# Altium schematic symbol library SMD 4000 Series Components.SchLib: 126 symbols (part 2 of 3)
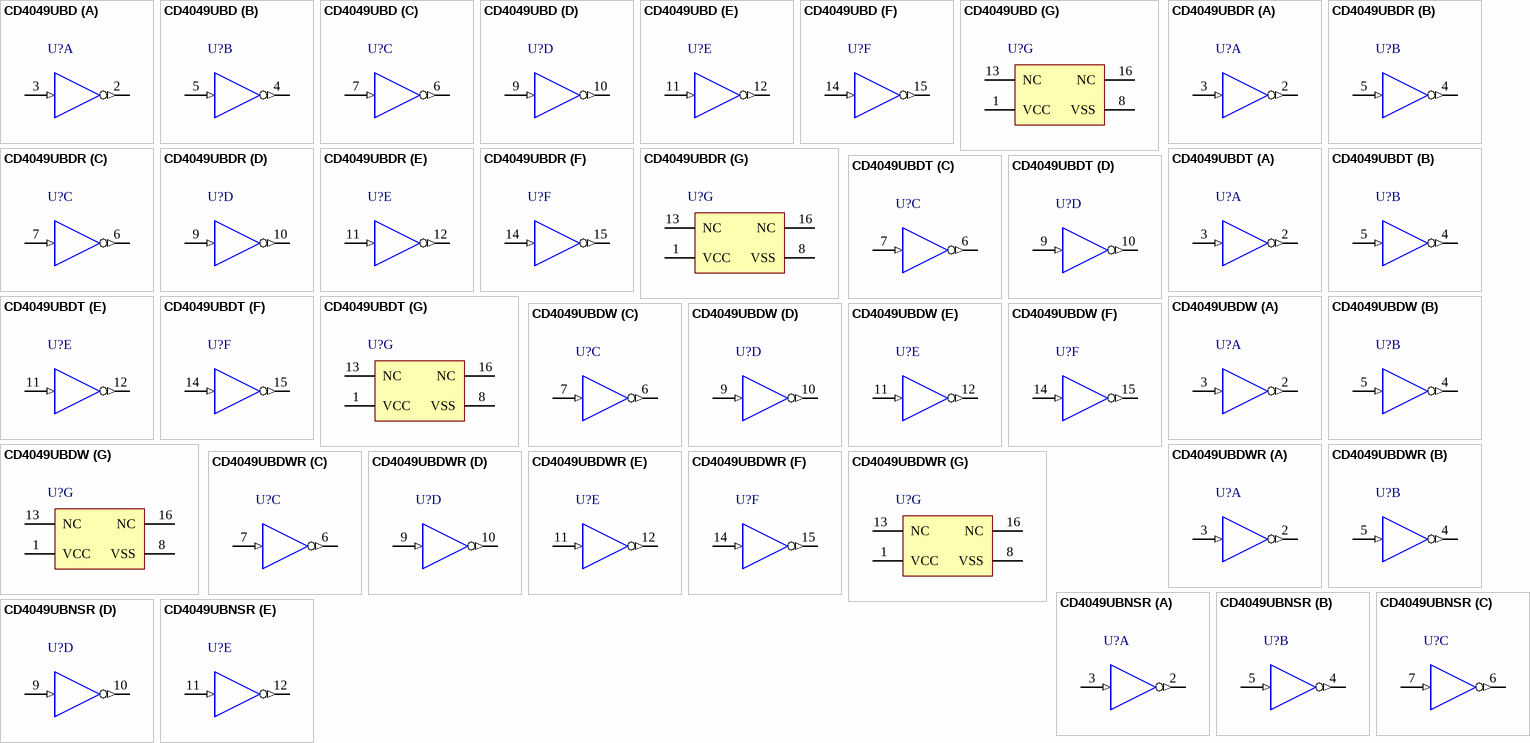
[diagram p11: symbols CD4049UBD to CD4049UBNSR]

## CD4049UBDR
designator U?
CMOS Hex Inverting Buffer/Converter, D0016A, LARGE T&R; Generic Part Number: CD4049UB; Manufacturer: Texas Instruments; PartNumber: CD4049UBDR; VCC(Max)(V): 18; VCC(Min)(V): 3; ICC @ Nom Voltage(Max)(mA): 0.03; Bits(#): 6; F @ Nom Voltage(Max)(Mhz): 12; Rating: Military; Technology Family: CD4000; Voltage(Nom)(V): 5; Schmitt Trigger: No; Output Drive (IOL/IOH)(Max)(mA): -1.2/5.2; tpd @ Nom Voltage(Max)(ns): 120; DatasheetVersion: SCHS046I; PackageReference: D0016A; Output Type: CMOS; Input Type: CMOS; Operating Temperature Range(C): -55 to 125; ComponentLink1Description: Manufacturer URL; ComponentLink1URL: http://www.ti.com/; ComponentLink2Description: Datasheet; ComponentLink2URL: http://www.ti.com/lit/ds/symlink/cd4049ub.pdf; ComponentLink3Description: Package Specification; ComponentLink3URL: http://www.ti.com/lit/ml/mpds178g/mpds178g.pdf
footprint SOIC-16 (SOIC, 16-Leads, Body 9.9x3.9mm, Pitch 1.27mm, IPC Medium Density)
part A pins: 2 G=~{A} (out), 3 A (in)
part B pins: 4 H=~{B} (out), 5 B (in)
part C pins: 6 I=~{C} (out), 7 C (in)
part D pins: 9 D (in), 10 J=~{D} (out)
part E pins: 11 E (in), 12 K=~{E} (out)
part F pins: 14 F (in), 15 L=~{F} (out)
part G pins: 1 VCC (power), 8 VSS (power), 13 NC, 16 NC

## CD4049UBDT
designator U?
CMOS Hex Inverting Buffer/Converter, D0016A, SMALL T&R; Generic Part Number: CD4049UB; Manufacturer: Texas Instruments; PartNumber: CD4049UBDT; VCC(Max)(V): 18; VCC(Min)(V): 3; ICC @ Nom Voltage(Max)(mA): 0.03; Bits(#): 6; F @ Nom Voltage(Max)(Mhz): 12; Rating: Military; Technology Family: CD4000; Voltage(Nom)(V): 5; Schmitt Trigger: No; Output Drive (IOL/IOH)(Max)(mA): -1.2/5.2; tpd @ Nom Voltage(Max)(ns): 120; DatasheetVersion: SCHS046I; PackageReference: D0016A; Output Type: CMOS; Input Type: CMOS; Operating Temperature Range(C): -55 to 125; ComponentLink1Description: Manufacturer URL; ComponentLink1URL: http://www.ti.com/; ComponentLink2Description: Datasheet; ComponentLink2URL: http://www.ti.com/lit/ds/symlink/cd4049ub.pdf; ComponentLink3Description: Package Specification; ComponentLink3URL: http://www.ti.com/lit/ml/mpds178g/mpds178g.pdf
footprint SOIC-16 (SOIC, 16-Leads, Body 9.9x3.9mm, Pitch 1.27mm, IPC Medium Density)
part A pins: 2 G=~{A} (out), 3 A (in)
part B pins: 4 H=~{B} (out), 5 B (in)
part C pins: 6 I=~{C} (out), 7 C (in)
part D pins: 9 D (in), 10 J=~{D} (out)
part E pins: 11 E (in), 12 K=~{E} (out)
part F pins: 14 F (in), 15 L=~{F} (out)
part G pins: 1 VCC (power), 8 VSS (power), 13 NC, 16 NC

## CD4049UBDW
designator U?
CMOS Hex Inverting Buffer/Converter, DW0016A, TUBE; Generic Part Number: CD4049UB; Manufacturer: Texas Instruments; PartNumber: CD4049UBDW; VCC(Max)(V): 18; VCC(Min)(V): 3; ICC @ Nom Voltage(Max)(mA): 0.03; Bits(#): 6; F @ Nom Voltage(Max)(Mhz): 12; Rating: Military; Technology Family: CD4000; Voltage(Nom)(V): 5; Schmitt Trigger: No; Output Drive (IOL/IOH)(Max)(mA): -1.2/5.2; tpd @ Nom Voltage(Max)(ns): 120; DatasheetVersion: SCHS046I; PackageReference: DW0016A; Output Type: CMOS; Input Type: CMOS; Operating Temperature Range(C): -55 to 125; ComponentLink1Description: Manufacturer URL; ComponentLink1URL: http://www.ti.com/; ComponentLink2Description: Datasheet; ComponentLink2URL: http://www.ti.com/lit/ds/symlink/cd4049ub.pdf; ComponentLink3Description: Package Specification; ComponentLink3URL: http://www.ti.com/lit/ml/msoi003g/msoi003g.pdf
footprint SOIC-16 (SOIC, 16-Leads, Body 9.9x3.9mm, Pitch 1.27mm, IPC Medium Density)
part A pins: 2 G=~{A} (out), 3 A (in)
part B pins: 4 H=~{B} (out), 5 B (in)
part C pins: 6 I=~{C} (out), 7 C (in)
part D pins: 9 D (in), 10 J=~{D} (out)
part E pins: 11 E (in), 12 K=~{E} (out)
part F pins: 14 F (in), 15 L=~{F} (out)
part G pins: 1 VCC (power), 8 VSS (power), 13 NC, 16 NC

## CD4049UBDWR
designator U?
CMOS Hex Inverting Buffer/Converter, DW0016A, LARGE T&R; Generic Part Number: CD4049UB; Manufacturer: Texas Instruments; PartNumber: CD4049UBDWR; VCC(Max)(V): 18; VCC(Min)(V): 3; ICC @ Nom Voltage(Max)(mA): 0.03; Bits(#): 6; F @ Nom Voltage(Max)(Mhz): 12; Rating: Military; Technology Family: CD4000; Voltage(Nom)(V): 5; Schmitt Trigger: No; Output Drive (IOL/IOH)(Max)(mA): -1.2/5.2; tpd @ Nom Voltage(Max)(ns): 120; DatasheetVersion: SCHS046I; PackageReference: DW0016A; Output Type: CMOS; Input Type: CMOS; Operating Temperature Range(C): -55 to 125; ComponentLink1Description: Manufacturer URL; ComponentLink1URL: http://www.ti.com/; ComponentLink2Description: Datasheet; ComponentLink2URL: http://www.ti.com/lit/ds/symlink/cd4049ub.pdf; ComponentLink3Description: Package Specification; ComponentLink3URL: http://www.ti.com/lit/ml/msoi003g/msoi003g.pdf
footprint SOIC-16 (SOIC, 16-Leads, Body 9.9x3.9mm, Pitch 1.27mm, IPC Medium Density)
part A pins: 2 G=~{A} (out), 3 A (in)
part B pins: 4 H=~{B} (out), 5 B (in)
part C pins: 6 I=~{C} (out), 7 C (in)
part D pins: 9 D (in), 10 J=~{D} (out)
part E pins: 11 E (in), 12 K=~{E} (out)
part F pins: 14 F (in), 15 L=~{F} (out)
part G pins: 1 VCC (power), 8 VSS (power), 13 NC, 16 NC

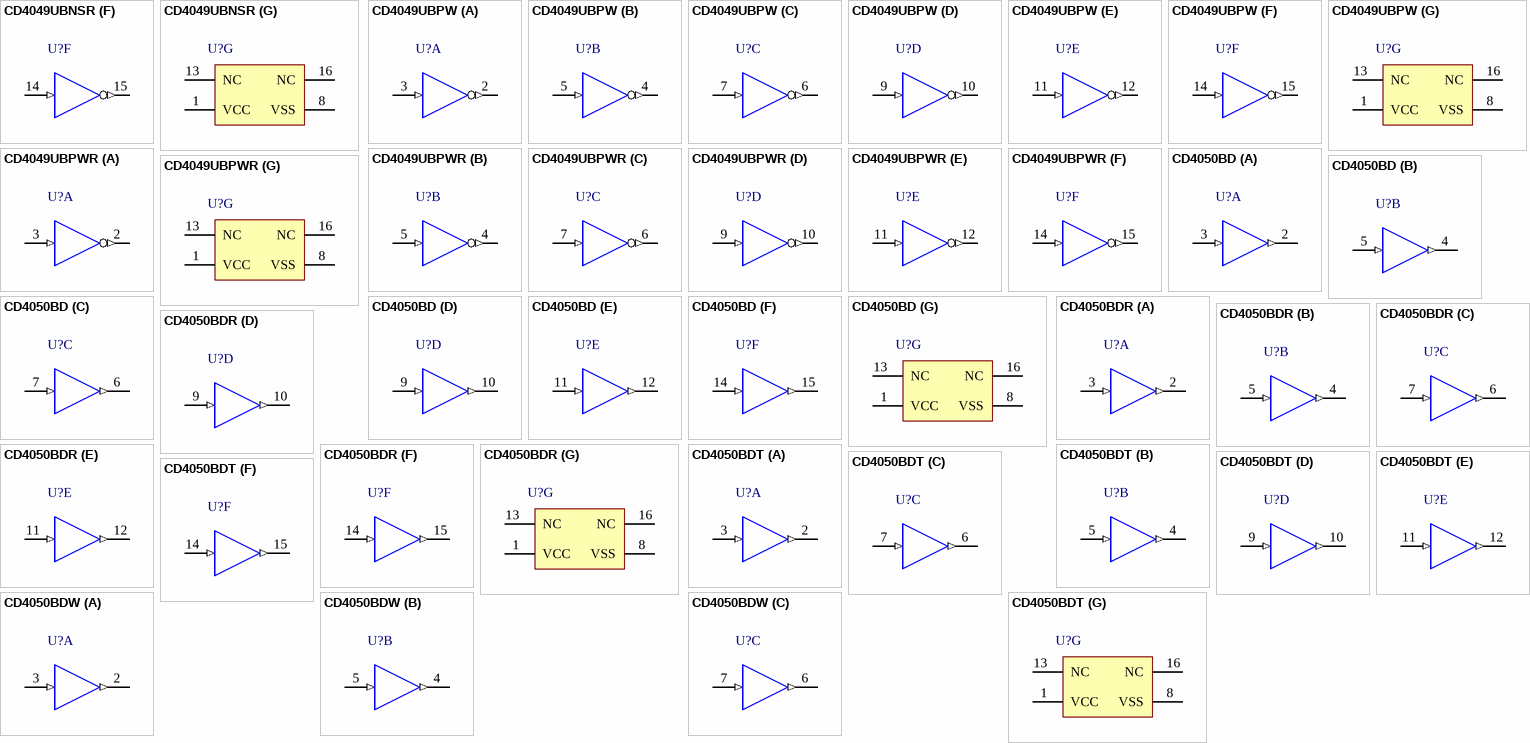
[diagram p5: symbols CD4049UBNSR to CD4050BDW]

## CD4049UBNSR
designator U?
CMOS Hex Inverting Buffer/Converter, NS0016A, LARGE T&R; Generic Part Number: CD4049UB; Manufacturer: Texas Instruments; PartNumber: CD4049UBNSR; VCC(Max)(V): 18; VCC(Min)(V): 3; ICC @ Nom Voltage(Max)(mA): 0.03; Bits(#): 6; F @ Nom Voltage(Max)(Mhz): 12; Rating: Military; Technology Family: CD4000; Voltage(Nom)(V): 5; Schmitt Trigger: No; Output Drive (IOL/IOH)(Max)(mA): -1.2/5.2; tpd @ Nom Voltage(Max)(ns): 120; DatasheetVersion: SCHS046I; PackageReference: NS0016A; Output Type: CMOS; Input Type: CMOS; Operating Temperature Range(C): -55 to 125; ComponentLink1Description: Manufacturer URL; ComponentLink1URL: http://www.ti.com/; ComponentLink2Description: Datasheet; ComponentLink2URL: http://www.ti.com/lit/ds/symlink/cd4049ub.pdf; ComponentLink3Description: Package Specification; ComponentLink3URL: http://www.ti.com/lit/ml/msop002a/msop002a.pdf
footprint SOIC-16 (SOIC, 16-Leads, Body 9.9x3.9mm, Pitch 1.27mm, IPC Medium Density)
part A pins: 2 G=~{A} (out), 3 A (in)
part B pins: 4 H=~{B} (out), 5 B (in)
part C pins: 6 I=~{C} (out), 7 C (in)
part D pins: 9 D (in), 10 J=~{D} (out)
part E pins: 11 E (in), 12 K=~{E} (out)
part F pins: 14 F (in), 15 L=~{F} (out)
part G pins: 1 VCC (power), 8 VSS (power), 13 NC, 16 NC

## CD4049UBPW
designator U?
CMOS Hex Inverting Buffer/Converter, PW0016A, TUBE; Generic Part Number: CD4049UB; Manufacturer: Texas Instruments; PartNumber: CD4049UBPW; VCC(Max)(V): 18; VCC(Min)(V): 3; ICC @ Nom Voltage(Max)(mA): 0.03; Bits(#): 6; F @ Nom Voltage(Max)(Mhz): 12; Rating: Military; Technology Family: CD4000; Voltage(Nom)(V): 5; Schmitt Trigger: No; Output Drive (IOL/IOH)(Max)(mA): -1.2/5.2; tpd @ Nom Voltage(Max)(ns): 120; DatasheetVersion: SCHS046I; PackageReference: PW0016A; Output Type: CMOS; Input Type: CMOS; Operating Temperature Range(C): -55 to 125; ComponentLink1Description: Manufacturer URL; ComponentLink1URL: http://www.ti.com/; ComponentLink2Description: Datasheet; ComponentLink2URL: http://www.ti.com/lit/ds/symlink/cd4049ub.pdf; ComponentLink3Description: Package Specification; ComponentLink3URL: http://www.ti.com/lit/ml/mpds361/mpds361.pdf
footprint SOP-16 (SOP, 16-Leads, Body 5.1x4.5mm, Pitch 0.65mm, IPC High Density)
part A pins: 2 G=~{A} (out), 3 A (in)
part B pins: 4 H=~{B} (out), 5 B (in)
part C pins: 6 I=~{C} (out), 7 C (in)
part D pins: 9 D (in), 10 J=~{D} (out)
part E pins: 11 E (in), 12 K=~{E} (out)
part F pins: 14 F (in), 15 L=~{F} (out)
part G pins: 1 VCC (power), 8 VSS (power), 13 NC, 16 NC

## CD4049UBPWR
designator U?
CMOS Hex Inverting Buffer/Converter, PW0016A, LARGE T&R; Generic Part Number: CD4049UB; Manufacturer: Texas Instruments; PartNumber: CD4049UBPWR; VCC(Max)(V): 18; VCC(Min)(V): 3; ICC @ Nom Voltage(Max)(mA): 0.03; Bits(#): 6; F @ Nom Voltage(Max)(Mhz): 12; Rating: Military; Technology Family: CD4000; Voltage(Nom)(V): 5; Schmitt Trigger: No; Output Drive (IOL/IOH)(Max)(mA): -1.2/5.2; tpd @ Nom Voltage(Max)(ns): 120; DatasheetVersion: SCHS046I; PackageReference: PW0016A; Output Type: CMOS; Input Type: CMOS; Operating Temperature Range(C): -55 to 125; ComponentLink1Description: Manufacturer URL; ComponentLink1URL: http://www.ti.com/; ComponentLink2Description: Datasheet; ComponentLink2URL: http://www.ti.com/lit/ds/symlink/cd4049ub.pdf; ComponentLink3Description: Package Specification; ComponentLink3URL: http://www.ti.com/lit/ml/mpds361/mpds361.pdf
footprint SOP-16 (SOP, 16-Leads, Body 5.1x4.5mm, Pitch 0.65mm, IPC High Density)
part A pins: 2 G=~{A} (out), 3 A (in)
part B pins: 4 H=~{B} (out), 5 B (in)
part C pins: 6 I=~{C} (out), 7 C (in)
part D pins: 9 D (in), 10 J=~{D} (out)
part E pins: 11 E (in), 12 K=~{E} (out)
part F pins: 14 F (in), 15 L=~{F} (out)
part G pins: 1 VCC (power), 8 VSS (power), 13 NC, 16 NC

## CD4050BD
designator U?
CMOS Hex Non-Inverting Buffer/Converter, D0016A, TUBE; Generic Part Number: CD4050B; Manufacturer: Texas Instruments; PartNumber: CD4050BD; VCC(Min)(V): 3; VCC(Max)(V): 18; ICC @ Nom Voltage(Max)(mA): 0.06; Bits(#): 6; F @ Nom Voltage(Max)(Mhz): 8; Rating: Military; Voltage(Nom)(V): 10; tpd @ Nom Voltage(Max)(ns): 140; DatasheetVersion: SCHS046I; PackageReference: D0016A; Output Type: CMOS; Input Type: CMOS; Operating Temperature Range(C): -55 to 125; Code_JEDEC: MS-012 variation AC; ComponentLink1Description: Manufacturer URL; ComponentLink1URL: http://www.ti.com/; ComponentLink2Description: Datasheet; ComponentLink2URL: http://www.ti.com/lit/ds/symlink/cd4050b.pdf; ComponentLink3Description: Package Specification; ComponentLink3URL: http://www.ti.com/lit/ml/mpds178g/mpds178g.pdf
footprint SOIC-16 (SOIC, 16-Leads, Body 9.9x3.9mm, Pitch 1.27mm, IPC Medium Density)
part A pins: 2 G (out), 3 A (in)
part B pins: 4 H (out), 5 B (in)
part C pins: 6 I (out), 7 C (in)
part D pins: 9 D (in), 10 J (out)
part E pins: 11 E (in), 12 K (out)
part F pins: 14 F (in), 15 L (out)
part G pins: 1 VCC (power), 8 VSS (power), 13 NC, 16 NC

## CD4050BDR
designator U?
CMOS Hex Non-Inverting Buffer/Converter, D0016A, LARGE T&R; Generic Part Number: CD4050B; Manufacturer: Texas Instruments; PartNumber: CD4050BDR; VCC(Min)(V): 3; VCC(Max)(V): 18; ICC @ Nom Voltage(Max)(mA): 0.06; Bits(#): 6; F @ Nom Voltage(Max)(Mhz): 8; Rating: Military; Voltage(Nom)(V): 10; tpd @ Nom Voltage(Max)(ns): 140; DatasheetVersion: SCHS046I; PackageReference: D0016A; Output Type: CMOS; Input Type: CMOS; Operating Temperature Range(C): -55 to 125; Code_JEDEC: MS-012 variation AC; ComponentLink1Description: Manufacturer URL; ComponentLink1URL: http://www.ti.com/; ComponentLink2Description: Datasheet; ComponentLink2URL: http://www.ti.com/lit/ds/symlink/cd4050b.pdf; ComponentLink3Description: Package Specification; ComponentLink3URL: http://www.ti.com/lit/ml/mpds178g/mpds178g.pdf
footprint SOP-16 (SOP, 16-Leads, Body 5.1x4.5mm, Pitch 0.65mm, IPC High Density)
part A pins: 2 G (out), 3 A (in)
part B pins: 4 H (out), 5 B (in)
part C pins: 6 I (out), 7 C (in)
part D pins: 9 D (in), 10 J (out)
part E pins: 11 E (in), 12 K (out)
part F pins: 14 F (in), 15 L (out)
part G pins: 1 VCC (power), 8 VSS (power), 13 NC, 16 NC

## CD4050BDT
designator U?
CMOS Hex Non-Inverting Buffer/Converter, D0016A, SMALL T&R; Generic Part Number: CD4050B; Manufacturer: Texas Instruments; PartNumber: CD4050BDT; VCC(Min)(V): 3; VCC(Max)(V): 18; ICC @ Nom Voltage(Max)(mA): 0.06; Bits(#): 6; F @ Nom Voltage(Max)(Mhz): 8; Rating: Military; Voltage(Nom)(V): 10; tpd @ Nom Voltage(Max)(ns): 140; DatasheetVersion: SCHS046I; PackageReference: D0016A; Output Type: CMOS; Input Type: CMOS; Operating Temperature Range(C): -55 to 125; Code_JEDEC: MS-012 variation AC; ComponentLink1Description: Manufacturer URL; ComponentLink1URL: http://www.ti.com/; ComponentLink2Description: Datasheet; ComponentLink2URL: http://www.ti.com/lit/ds/symlink/cd4050b.pdf; ComponentLink3Description: Package Specification; ComponentLink3URL: http://www.ti.com/lit/ml/mpds178g/mpds178g.pdf
footprint SOIC-16 (SOIC, 16-Leads, Body 9.9x3.9mm, Pitch 1.27mm, IPC Medium Density)
part A pins: 2 G (out), 3 A (in)
part B pins: 4 H (out), 5 B (in)
part C pins: 6 I (out), 7 C (in)
part D pins: 9 D (in), 10 J (out)
part E pins: 11 E (in), 12 K (out)
part F pins: 14 F (in), 15 L (out)
part G pins: 1 VCC (power), 8 VSS (power), 13 NC, 16 NC

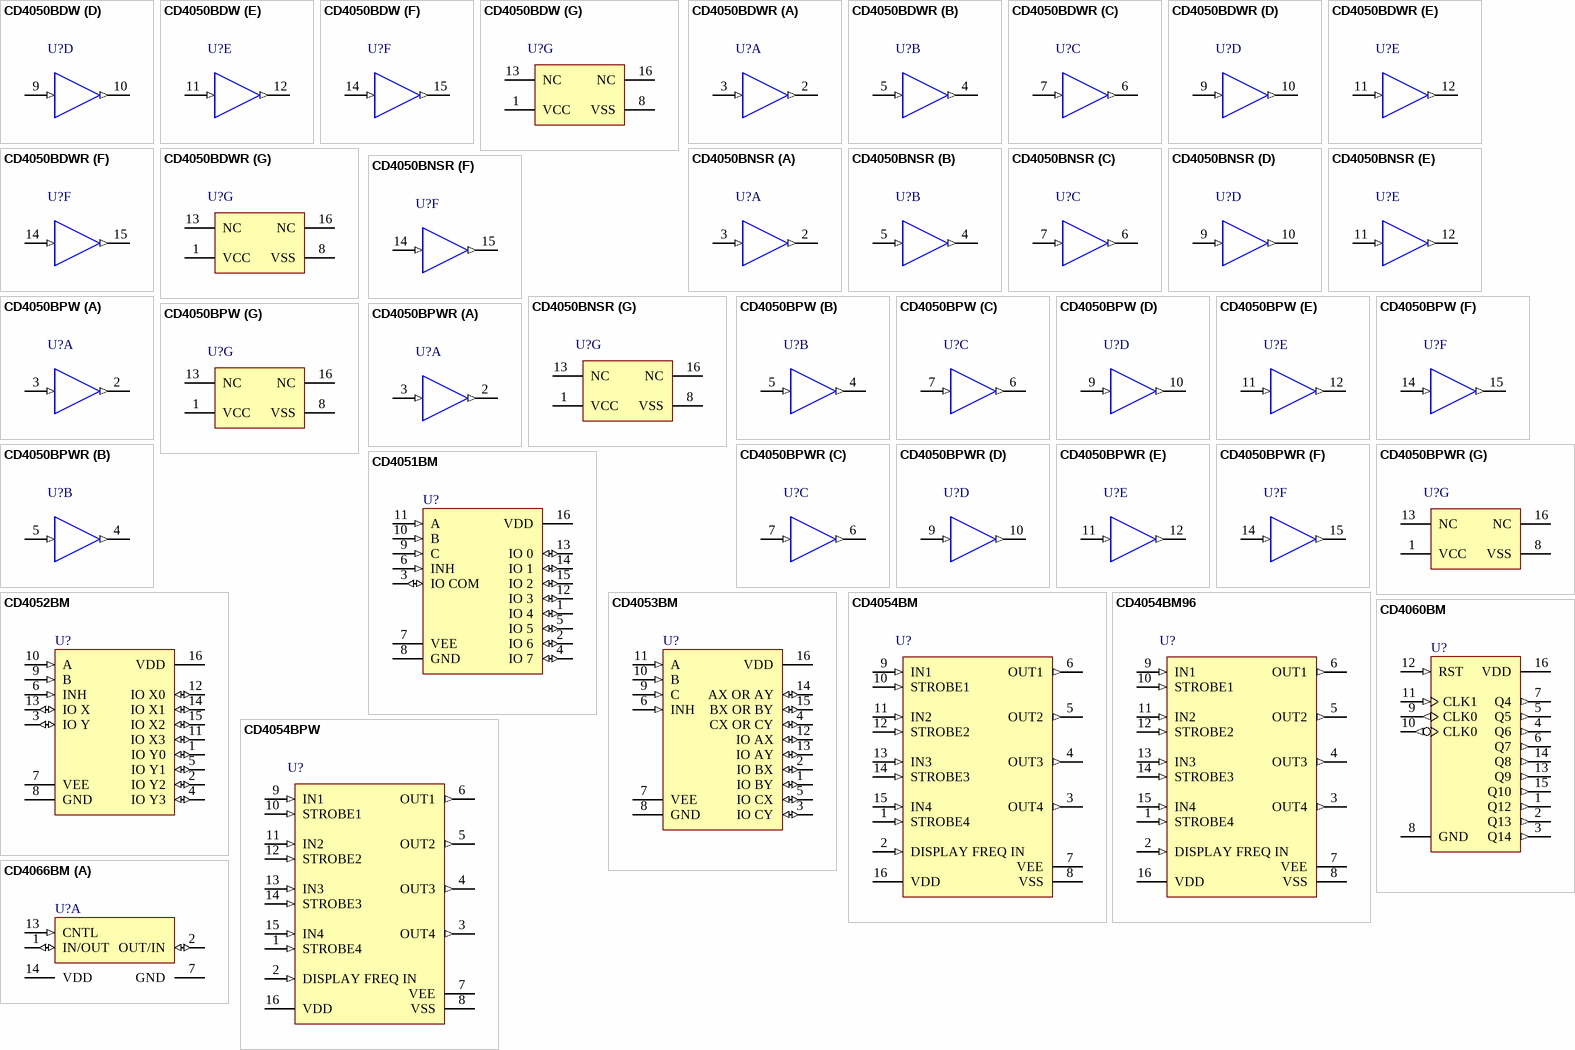
[diagram p6: symbols CD4050BDW to CD4066BM]

## CD4050BDW
designator U?
CMOS Hex Non-Inverting Buffer/Converter, DW0016A, TUBE; Generic Part Number: CD4050B; Manufacturer: Texas Instruments; PartNumber: CD4050BDW; VCC(Min)(V): 3; VCC(Max)(V): 18; ICC @ Nom Voltage(Max)(mA): 0.06; Bits(#): 6; F @ Nom Voltage(Max)(Mhz): 8; Rating: Military; Voltage(Nom)(V): 10; tpd @ Nom Voltage(Max)(ns): 140; DatasheetVersion: SCHS046I; PackageReference: DW0016A; Output Type: CMOS; Input Type: CMOS; Operating Temperature Range(C): -55 to 125; Code_JEDEC: MS-013 variation AA; ComponentLink1Description: Manufacturer URL; ComponentLink1URL: http://www.ti.com/; ComponentLink2Description: Datasheet; ComponentLink2URL: http://www.ti.com/lit/ds/symlink/cd4050b.pdf; ComponentLink3Description: Package Specification; ComponentLink3URL: http://www.ti.com/lit/ml/msoi003g/msoi003g.pdf
footprint SOIC-16 (SOIC, 16-Leads, Body 9.9x3.9mm, Pitch 1.27mm, IPC Medium Density)
part A pins: 2 G (out), 3 A (in)
part B pins: 4 H (out), 5 B (in)
part C pins: 6 I (out), 7 C (in)
part D pins: 9 D (in), 10 J (out)
part E pins: 11 E (in), 12 K (out)
part F pins: 14 F (in), 15 L (out)
part G pins: 1 VCC (power), 8 VSS (power), 13 NC, 16 NC

## CD4050BDWR
designator U?
CMOS Hex Non-Inverting Buffer/Converter, DW0016A, LARGE T&R; Generic Part Number: CD4050B; Manufacturer: Texas Instruments; PartNumber: CD4050BDWR; VCC(Min)(V): 3; VCC(Max)(V): 18; ICC @ Nom Voltage(Max)(mA): 0.06; Bits(#): 6; F @ Nom Voltage(Max)(Mhz): 8; Rating: Military; Voltage(Nom)(V): 10; tpd @ Nom Voltage(Max)(ns): 140; DatasheetVersion: SCHS046I; PackageReference: DW0016A; Output Type: CMOS; Input Type: CMOS; Operating Temperature Range(C): -55 to 125; Code_JEDEC: MS-013 variation AA; ComponentLink1Description: Manufacturer URL; ComponentLink1URL: http://www.ti.com/; ComponentLink2Description: Datasheet; ComponentLink2URL: http://www.ti.com/lit/ds/symlink/cd4050b.pdf; ComponentLink3Description: Package Specification; ComponentLink3URL: http://www.ti.com/lit/ml/msoi003g/msoi003g.pdf
footprint SOIC-16 (SOIC, 16-Leads, Body 9.9x3.9mm, Pitch 1.27mm, IPC Medium Density)
part A pins: 2 G (out), 3 A (in)
part B pins: 4 H (out), 5 B (in)
part C pins: 6 I (out), 7 C (in)
part D pins: 9 D (in), 10 J (out)
part E pins: 11 E (in), 12 K (out)
part F pins: 14 F (in), 15 L (out)
part G pins: 1 VCC (power), 8 VSS (power), 13 NC, 16 NC

## CD4050BNSR
designator U?
CMOS Hex Non-Inverting Buffer/Converter, NS0016A, LARGE T&R; Generic Part Number: CD4050B; Manufacturer: Texas Instruments; PartNumber: CD4050BNSR; VCC(Min)(V): 3; VCC(Max)(V): 18; ICC @ Nom Voltage(Max)(mA): 0.06; Bits(#): 6; F @ Nom Voltage(Max)(Mhz): 8; Rating: Military; Voltage(Nom)(V): 10; tpd @ Nom Voltage(Max)(ns): 140; DatasheetVersion: SCHS046I; PackageReference: NS0016A; Output Type: CMOS; Input Type: CMOS; Operating Temperature Range(C): -55 to 125; ComponentLink1Description: Manufacturer URL; ComponentLink1URL: http://www.ti.com/; ComponentLink2Description: Datasheet; ComponentLink2URL: http://www.ti.com/lit/ds/symlink/cd4050b.pdf; ComponentLink3Description: Package Specification; ComponentLink3URL: http://www.ti.com/lit/ml/msop002a/msop002a.pdf
footprint SOIC-16 (SOIC, 16-Leads, Body 9.9x3.9mm, Pitch 1.27mm, IPC Medium Density)
part A pins: 2 G (out), 3 A (in)
part B pins: 4 H (out), 5 B (in)
part C pins: 6 I (out), 7 C (in)
part D pins: 9 D (in), 10 J (out)
part E pins: 11 E (in), 12 K (out)
part F pins: 14 F (in), 15 L (out)
part G pins: 1 VCC (power), 8 VSS (power), 13 NC, 16 NC

## CD4050BPW
designator U?
CMOS Hex Non-Inverting Buffer/Converter, PW0016A, TUBE; Generic Part Number: CD4050B; Manufacturer: Texas Instruments; PartNumber: CD4050BPW; VCC(Min)(V): 3; VCC(Max)(V): 18; ICC @ Nom Voltage(Max)(mA): 0.06; Bits(#): 6; F @ Nom Voltage(Max)(Mhz): 8; Rating: Military; Voltage(Nom)(V): 10; tpd @ Nom Voltage(Max)(ns): 140; DatasheetVersion: SCHS046I; PackageReference: PW0016A; Output Type: CMOS; Input Type: CMOS; Operating Temperature Range(C): -55 to 125; Code_JEDEC: MO-153; ComponentLink1Description: Manufacturer URL; ComponentLink1URL: http://www.ti.com/; ComponentLink2Description: Datasheet; ComponentLink2URL: http://www.ti.com/lit/ds/symlink/cd4050b.pdf; ComponentLink3Description: Package Specification; ComponentLink3URL: http://www.ti.com/lit/ml/mpds361/mpds361.pdf
footprint SOP-16 (SOP, 16-Leads, Body 5.1x4.5mm, Pitch 0.65mm, IPC High Density)
part A pins: 2 G (out), 3 A (in)
part B pins: 4 H (out), 5 B (in)
part C pins: 6 I (out), 7 C (in)
part D pins: 9 D (in), 10 J (out)
part E pins: 11 E (in), 12 K (out)
part F pins: 14 F (in), 15 L (out)
part G pins: 1 VCC (power), 8 VSS (power), 13 NC, 16 NC

## CD4050BPWR
designator U?
CMOS Hex Non-Inverting Buffer/Converter, PW0016A, LARGE T&R; Generic Part Number: CD4050B; Manufacturer: Texas Instruments; PartNumber: CD4050BPWR; VCC(Min)(V): 3; VCC(Max)(V): 18; ICC @ Nom Voltage(Max)(mA): 0.06; Bits(#): 6; F @ Nom Voltage(Max)(Mhz): 8; Rating: Military; Voltage(Nom)(V): 10; tpd @ Nom Voltage(Max)(ns): 140; DatasheetVersion: SCHS046I; PackageReference: PW0016A; Output Type: CMOS; Input Type: CMOS; Operating Temperature Range(C): -55 to 125; Code_JEDEC: MO-153; ComponentLink1Description: Manufacturer URL; ComponentLink1URL: http://www.ti.com/; ComponentLink2Description: Datasheet; ComponentLink2URL: http://www.ti.com/lit/ds/symlink/cd4050b.pdf; ComponentLink3Description: Package Specification; ComponentLink3URL: http://www.ti.com/lit/ml/mpds361/mpds361.pdf
footprint SOP-16 (SOP, 16-Leads, Body 5.1x4.5mm, Pitch 0.65mm, IPC High Density)
part A pins: 2 G (out), 3 A (in)
part B pins: 4 H (out), 5 B (in)
part C pins: 6 I (out), 7 C (in)
part D pins: 9 D (in), 10 J (out)
part E pins: 11 E (in), 12 K (out)
part F pins: 14 F (in), 15 L (out)
part G pins: 1 VCC (power), 8 VSS (power), 13 NC, 16 NC

## CD4051BM
designator U?
Single 8-Ch. Analog Multiplexer/Demultiplexer; Published: 8-Jun-2000; LatestRevisionDate: 06-Jun-2005; LatestRevisionNote: Stylized 3D Model Added.; DatasheetVersion: Jun-1989; PackageVersion: Apr-1996; PackageReference: DIP16; Publisher: Altium Limited; PackageDescription: DIP; 16 Leads; Row Spacing 7.62 mm; Pitch 2.54 mm; ComponentLink1Description: Manufacturer Link; ComponentLink1URL: http://www.st.com/
footprint SOIC-16 (SOIC, 16-Leads, Body 9.9x3.9mm, Pitch 1.27mm, IPC Medium Density)
pins: 1 IO 4 (io), 2 IO 6 (io), 3 IO COM (io), 4 IO 7 (io), 5 IO 5 (io), 6 INH (in), 7 VEE (power), 8 GND (power), 9 C (in), 10 B (in), 11 A (in), 12 IO 3 (io), 13 IO 0 (io), 14 IO 1 (io), 15 IO 2 (io), 16 VDD (power)

## CD4052BM
designator U?
Dual 4-Ch. Analog Multiplexer/Demultiplexer; Published: 8-Jun-2000; LatestRevisionDate: 06-Jun-2005; LatestRevisionNote: Stylized 3D Model Added.; DatasheetVersion: Jun-1989; PackageVersion: Apr-1996; PackageReference: DIP16; Publisher: Altium Limited; PackageDescription: DIP; 16 Leads; Row Spacing 7.62 mm; Pitch 2.54 mm; ComponentLink1Description: Manufacturer Link; ComponentLink1URL: http://www.st.com/
footprint SOIC-16 (SOIC, 16-Leads, Body 9.9x3.9mm, Pitch 1.27mm, IPC Medium Density)
pins: 1 IO Y0 (io), 2 IO Y2 (io), 3 IO Y (io), 4 IO Y3 (io), 5 IO Y1 (io), 6 INH (in), 7 VEE (power), 8 GND (power), 9 B (in), 10 A (in), 11 IO X3 (io), 12 IO X0 (io), 13 IO X (io), 14 IO X1 (io), 15 IO X2 (io), 16 VDD (power)

## CD4053BM
designator U?
Triple 2-Ch. Analog Multiplexer/Demultiplexer; Published: 8-Jun-2000; LatestRevisionDate: 06-Jun-2005; LatestRevisionNote: Stylized 3D Model Added.; DatasheetVersion: Jun-1989; PackageVersion: Apr-1996; PackageReference: DIP16; Publisher: Altium Limited; PackageDescription: DIP; 16 Leads; Row Spacing 7.62 mm; Pitch 2.54 mm; ComponentLink1Description: Manufacturer Link; ComponentLink1URL: http://www.st.com/
footprint SOIC-16 (SOIC, 16-Leads, Body 9.9x3.9mm, Pitch 1.27mm, IPC Medium Density)
pins: 1 IO BY (io), 2 IO BX (io), 3 IO CY (io), 4 CX OR CY (io), 5 IO CX (io), 6 INH (in), 7 VEE (power), 8 GND (power), 9 C (in), 10 B (in), 11 A (in), 12 IO AX (io), 13 IO AY (io), 14 AX OR AY (io), 15 BX OR BY (io), 16 VDD (power)

## CD4054BM
designator U?
CMOS 4-Segment Liquid-Crystal Display Driver, D0016A, TUBE; Generic Part Number: CD4054B; Manufacturer: Texas Instruments; PartNumber: CD4054BM; VCC(Min)(V): 3; VCC(Max)(V): 18; ICC @ Nom Voltage(Max)(mA): 0.06; Bits(#): 4; F @ Nom Voltage(Max)(Mhz): 8; Rating: Catalog; Voltage(Nom)(V): 10; tpd @ Nom Voltage(Max)(ns): 800; DatasheetVersion: SCHS048C; PackageReference: D0016A; Output Type: CMOS; Input Type: CMOS; Operating Temperature Range(C): -55 to 125; Code_JEDEC: MS-012 variation AC; ComponentLink1Description: Manufacturer URL; ComponentLink1URL: http://www.ti.com/; ComponentLink2Description: Datasheet; ComponentLink2URL: http://www.ti.com/lit/ds/symlink/cd4054b.pdf; ComponentLink3Description: Package Specification; ComponentLink3URL: http://www.ti.com/lit/ml/mpds178g/mpds178g.pdf
footprint SOIC-16 (SOIC, 16-Leads, Body 9.9x3.9mm, Pitch 1.27mm, IPC Medium Density)
pins: 1 STROBE4 (in), 2 DISPLAY FREQ IN (in), 3 OUT4 (out), 4 OUT3 (out), 5 OUT2 (out), 6 OUT1 (out), 7 VEE (power), 8 VSS (power), 9 IN1 (in), 10 STROBE1 (in), 11 IN2 (in), 12 STROBE2 (in), 13 IN3 (in), 14 STROBE3 (in), 15 IN4 (in), 16 VDD (power)

## CD4054BM96
designator U?
CMOS 4-Segment Liquid-Crystal Display Driver, D0016A, LARGE T&R; Generic Part Number: CD4054B; Manufacturer: Texas Instruments; PartNumber: CD4054BM96; VCC(Min)(V): 3; VCC(Max)(V): 18; ICC @ Nom Voltage(Max)(mA): 0.06; Bits(#): 4; F @ Nom Voltage(Max)(Mhz): 8; Rating: Catalog; Voltage(Nom)(V): 10; tpd @ Nom Voltage(Max)(ns): 800; DatasheetVersion: SCHS048C; PackageReference: D0016A; Output Type: CMOS; Input Type: CMOS; Operating Temperature Range(C): -55 to 125; Code_JEDEC: MS-012 variation AC; ComponentLink1Description: Manufacturer URL; ComponentLink1URL: http://www.ti.com/; ComponentLink2Description: Datasheet; ComponentLink2URL: http://www.ti.com/lit/ds/symlink/cd4054b.pdf; ComponentLink3Description: Package Specification; ComponentLink3URL: http://www.ti.com/lit/ml/mpds178g/mpds178g.pdf
footprint SOIC-16 (SOIC, 16-Leads, Body 9.9x3.9mm, Pitch 1.27mm, IPC Medium Density)
pins: 1 STROBE4 (in), 2 DISPLAY FREQ IN (in), 3 OUT4 (out), 4 OUT3 (out), 5 OUT2 (out), 6 OUT1 (out), 7 VEE (power), 8 VSS (power), 9 IN1 (in), 10 STROBE1 (in), 11 IN2 (in), 12 STROBE2 (in), 13 IN3 (in), 14 STROBE3 (in), 15 IN4 (in), 16 VDD (power)

## CD4054BPW
designator U?
CMOS 4-Segment Liquid-Crystal Display Driver, PW0016A, TUBE; Generic Part Number: CD4054B; Manufacturer: Texas Instruments; PartNumber: CD4054BPW; VCC(Min)(V): 3; VCC(Max)(V): 18; ICC @ Nom Voltage(Max)(mA): 0.06; Bits(#): 4; F @ Nom Voltage(Max)(Mhz): 8; Rating: Catalog; Voltage(Nom)(V): 10; tpd @ Nom Voltage(Max)(ns): 800; DatasheetVersion: SCHS048C; PackageReference: PW0016A; Output Type: CMOS; Input Type: CMOS; Operating Temperature Range(C): -55 to 125; Code_JEDEC: MO-153; ComponentLink1Description: Manufacturer URL; ComponentLink1URL: http://www.ti.com/; ComponentLink2Description: Datasheet; ComponentLink2URL: http://www.ti.com/lit/ds/symlink/cd4054b.pdf; ComponentLink3Description: Package Specification; ComponentLink3URL: http://www.ti.com/lit/ml/mpds361/mpds361.pdf
footprint SOP-16 (SOP, 16-Leads, Body 5.1x4.5mm, Pitch 0.65mm, IPC High Density)
pins: 1 STROBE4 (in), 2 DISPLAY FREQ IN (in), 3 OUT4 (out), 4 OUT3 (out), 5 OUT2 (out), 6 OUT1 (out), 7 VEE (power), 8 VSS (power), 9 IN1 (in), 10 STROBE1 (in), 11 IN2 (in), 12 STROBE2 (in), 13 IN3 (in), 14 STROBE3 (in), 15 IN4 (in), 16 VDD (power)

## CD4060BM
designator U?
14-Stage Ripple Carry Binary Counter/Divider and Oscillator; Published: 8-Jun-2000; LatestRevisionDate: 06-Jun-2005; LatestRevisionNote: Stylized 3D Model Added.; DatasheetVersion: Sep-1988; PackageVersion: Apr-1996; PackageReference: DIP16; Publisher: Altium Limited; PackageDescription: DIP; 16 Leads; Row Spacing 7.62 mm; Pitch 2.54 mm; ComponentLink1Description: Manufacturer Link; ComponentLink1URL: http://www.st.com/
footprint SOIC-16 (SOIC, 16-Leads, Body 9.9x3.9mm, Pitch 1.27mm, IPC Medium Density)
pins: 1 Q12 (out), 2 Q13 (out), 3 Q14 (out), 4 Q6 (out), 5 Q5 (out), 6 Q7 (out), 7 Q4 (out), 8 GND (power), 9 CLK0 (out), 10 CLK0 (out), 11 CLK1 (in), 12 RST (in), 13 Q9 (out), 14 Q8 (out), 15 Q10 (out), 16 VDD (power)

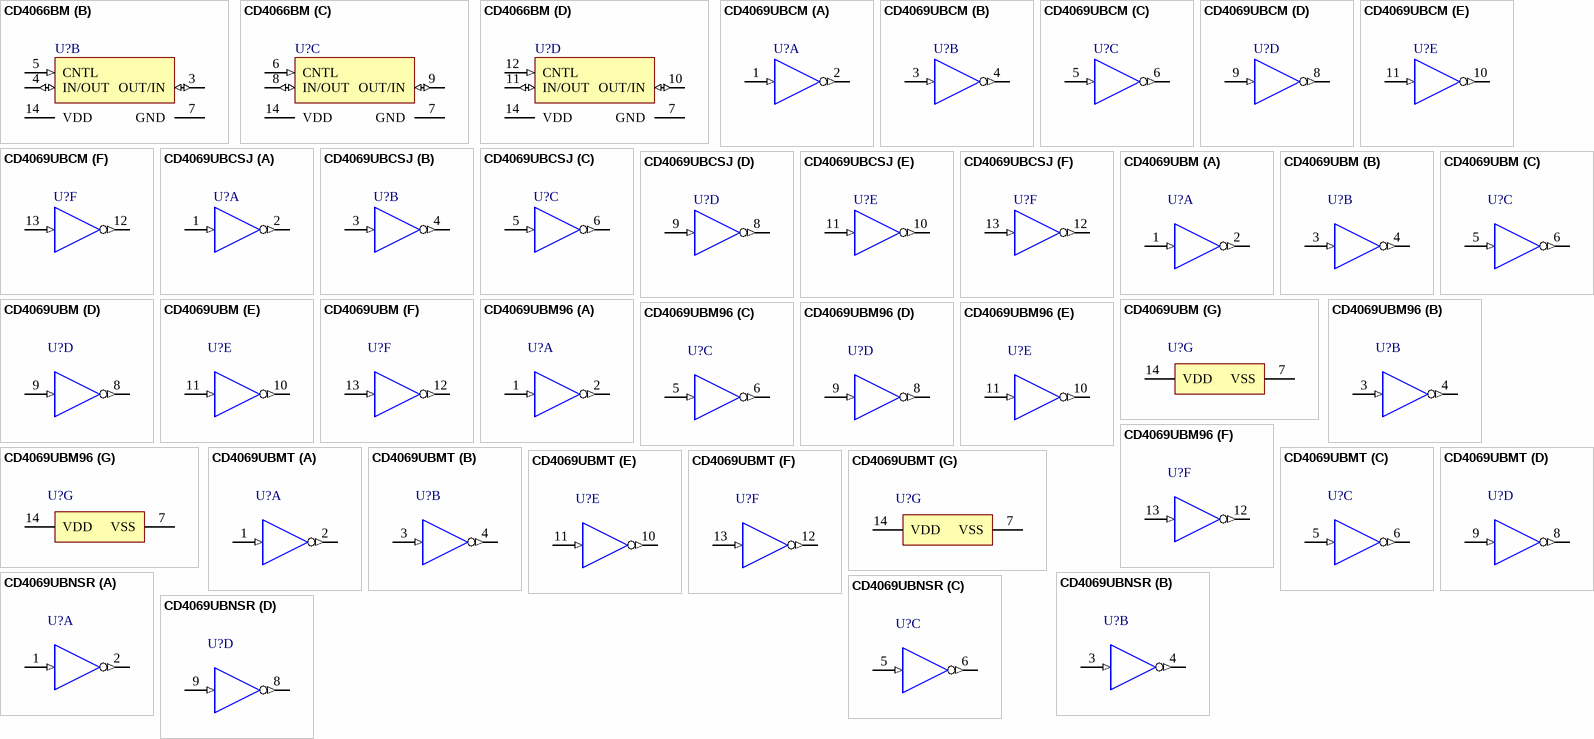
[diagram p7: symbols CD4066BM to CD4069UBNSR]

## CD4066BM
designator U?
Quad Bilateral Switch For Transmission or Multiplexing of Analog or Digital Signals; Published: 8-Jun-2000; LatestRevisionDate: 04-Mar-2005; LatestRevisionNote: Stylized 3D Model Added.; DatasheetVersion: Jun-1989; PackageVersion: Jan-1997; PackageReference: DIP14; Publisher: Altium Limited; PackageDescription: DIP; 14 Leads; Row Spacing 7.62 mm; Pitch 2.54 mm; ComponentLink1Description: Manufacturer Link; ComponentLink1URL: http://www.st.com/; ComponentLink2Description: Datasheet; ComponentLink2URL: http://www.st.com/stonline/products/literature/ds/2057/hcf4066.pdf
footprint SOIC-14 (SOIC, 14-Leads, Body 8.75x4mm, Pitch 1.27mm, IPC High Density)
pins on every part: 7 GND (power) hidden to GND, 14 VDD (power) hidden to VDD
part A pins: 1 IN/OUT (io), 2 OUT/IN (io), 13 CNTL (in)
part B pins: 3 OUT/IN (io), 4 IN/OUT (io), 5 CNTL (in)
part C pins: 6 CNTL (in), 8 IN/OUT (io), 9 OUT/IN (io)
part D pins: 10 OUT/IN (io), 11 IN/OUT (io), 12 CNTL (in)

## CD4069UBCM
designator U?
Hex Inverter, 14-Pin SOIC; IC_Technology: C; Published: 17-Jul-2002; LatestRevisionDate: 13-Apr-2006; LatestRevisionNote: IPC-7351 Footprint Added.; DatasheetVersion: Jan-1999; PackageVersion: 2000; PackageReference: M14A; Publisher: Altium Limited; PackageDescription: 14-Pin Small Outline Integrated Circuit 1.27 mm Pitch; Code_IPC: SOIC127P600-14; ComponentLink1Description: Manufacturer Link; ComponentLink1URL: http://www.fairchildsemi.com/; ComponentLink2Description: Datasheet; ComponentLink2URL: http://www.fairchildsemi.com/ds/CD%2FCD4069UBC.pdf
footprint SOIC-14 (SOIC, 14-Leads, Body 8.75x4mm, Pitch 1.27mm, IPC High Density)
pins on every part: 7 GND (power) hidden to GND, 14 VDD (power) hidden to VDD
part A pins: 1 I (in), 2 O (out)
part B pins: 3 I (in), 4 O (out)
part C pins: 5 I (in), 6 O (out)
part D pins: 8 O (out), 9 I (in)
part E pins: 10 O (out), 11 I (in)
part F pins: 12 O (out), 13 I (in)

## CD4069UBCSJ
designator U?
Hex Inverter, 14-Pin SOP, Commerical Grade; IC_Technology: C; Published: 17-Jul-2002; LatestRevisionDate: 13-Apr-2006; LatestRevisionNote: IPC-7351 Footprint Added.; DatasheetVersion: Jan-1999; PackageVersion: 2000; PackageReference: M14D; Publisher: Altium Limited; PackageDescription: 14-Pin Small Outline Package 1.27 mm Pitch; ComponentLink1Description: Manufacturer Link; ComponentLink1URL: http://www.fairchildsemi.com/; ComponentLink2Description: Datasheet; ComponentLink2URL: http://www.fairchildsemi.com/ds/CD%2FCD4069UBC.pdf
footprint SOP-14 (SOP, 14-Leads, Body 5.1x4.5mm, Pitch 0.65mm, IPC High Density)
pins on every part: 7 GND (power) hidden to GND, 14 VDD (power) hidden to VDD
part A pins: 1 I (in), 2 O (out)
part B pins: 3 I (in), 4 O (out)
part C pins: 5 I (in), 6 O (out)
part D pins: 8 O (out), 9 I (in)
part E pins: 10 O (out), 11 I (in)
part F pins: 12 O (out), 13 I (in)

## CD4069UBM
designator U?
CMOS Hex Inverter, D0014A, TUBE; Generic Part Number: CD4069UB; Manufacturer: Texas Instruments; PartNumber: CD4069UBM; VCC(Max)(V): 18; VCC(Min)(V): 3; ICC @ Nom Voltage(Max)(mA): 0.0075; Bits(#): 6; F @ Nom Voltage(Max)(Mhz): 12; Rating: Catalog; Technology Family: CD4000; Voltage(Nom)(V): 5; Schmitt Trigger: No; Output Drive (IOL/IOH)(Max)(mA): -1/1; tpd @ Nom Voltage(Max)(ns): 110; DatasheetVersion: SCHS054C; PackageReference: D0014A; Output Type: CMOS; Input Type: CMOS; Operating Temperature Range(C): -55 to 125; ComponentLink1Description: Manufacturer URL; ComponentLink1URL: http://www.ti.com/; ComponentLink2Description: Datasheet; ComponentLink2URL: http://www.ti.com/lit/ds/symlink/cd4069ub.pdf; ComponentLink3Description: Package Specification; ComponentLink3URL: http://www.ti.com/lit/ml/mpds177g/mpds177g.pdf
footprint SOIC-14 (SOIC, 14-Leads, Body 8.75x4mm, Pitch 1.27mm, IPC High Density)
part A pins: 1 A (in), 2 G=~{A} (out)
part B pins: 3 B (in), 4 H=~{B} (out)
part C pins: 5 C (in), 6 I=~{C} (out)
part D pins: 8 J=~{D} (out), 9 D (in)
part E pins: 10 K=~{E} (out), 11 E (in)
part F pins: 12 L=~{F} (out), 13 F (in)
part G pins: 7 VSS (power), 14 VDD (power)

## CD4069UBM96
designator U?
CMOS Hex Inverter, D0014A, LARGE T&R; Generic Part Number: CD4069UB; Manufacturer: Texas Instruments; PartNumber: CD4069UBM96; VCC(Max)(V): 18; VCC(Min)(V): 3; ICC @ Nom Voltage(Max)(mA): 0.0075; Bits(#): 6; F @ Nom Voltage(Max)(Mhz): 12; Rating: Catalog; Technology Family: CD4000; Voltage(Nom)(V): 5; Schmitt Trigger: No; Output Drive (IOL/IOH)(Max)(mA): -1/1; tpd @ Nom Voltage(Max)(ns): 110; DatasheetVersion: SCHS054C; PackageReference: D0014A; Output Type: CMOS; Input Type: CMOS; Operating Temperature Range(C): -55 to 125; ComponentLink1Description: Manufacturer URL; ComponentLink1URL: http://www.ti.com/; ComponentLink2Description: Datasheet; ComponentLink2URL: http://www.ti.com/lit/ds/symlink/cd4069ub.pdf; ComponentLink3Description: Package Specification; ComponentLink3URL: http://www.ti.com/lit/ml/mpds177g/mpds177g.pdf
footprint SOIC-14 (SOIC, 14-Leads, Body 8.75x4mm, Pitch 1.27mm, IPC High Density)
part A pins: 1 A (in), 2 G=~{A} (out)
part B pins: 3 B (in), 4 H=~{B} (out)
part C pins: 5 C (in), 6 I=~{C} (out)
part D pins: 8 J=~{D} (out), 9 D (in)
part E pins: 10 K=~{E} (out), 11 E (in)
part F pins: 12 L=~{F} (out), 13 F (in)
part G pins: 7 VSS (power), 14 VDD (power)

## CD4069UBMT
designator U?
CMOS Hex Inverter, D0014A, SMALL T&R; Generic Part Number: CD4069UB; Manufacturer: Texas Instruments; PartNumber: CD4069UBMT; VCC(Max)(V): 18; VCC(Min)(V): 3; ICC @ Nom Voltage(Max)(mA): 0.0075; Bits(#): 6; F @ Nom Voltage(Max)(Mhz): 12; Rating: Catalog; Technology Family: CD4000; Voltage(Nom)(V): 5; Schmitt Trigger: No; Output Drive (IOL/IOH)(Max)(mA): -1/1; tpd @ Nom Voltage(Max)(ns): 110; DatasheetVersion: SCHS054C; PackageReference: D0014A; Output Type: CMOS; Input Type: CMOS; Operating Temperature Range(C): -55 to 125; ComponentLink1Description: Manufacturer URL; ComponentLink1URL: http://www.ti.com/; ComponentLink2Description: Datasheet; ComponentLink2URL: http://www.ti.com/lit/ds/symlink/cd4069ub.pdf; ComponentLink3Description: Package Specification; ComponentLink3URL: http://www.ti.com/lit/ml/mpds177g/mpds177g.pdf
footprint SOIC-14 (SOIC, 14-Leads, Body 8.75x4mm, Pitch 1.27mm, IPC High Density)
part A pins: 1 A (in), 2 G=~{A} (out)
part B pins: 3 B (in), 4 H=~{B} (out)
part C pins: 5 C (in), 6 I=~{C} (out)
part D pins: 8 J=~{D} (out), 9 D (in)
part E pins: 10 K=~{E} (out), 11 E (in)
part F pins: 12 L=~{F} (out), 13 F (in)
part G pins: 7 VSS (power), 14 VDD (power)

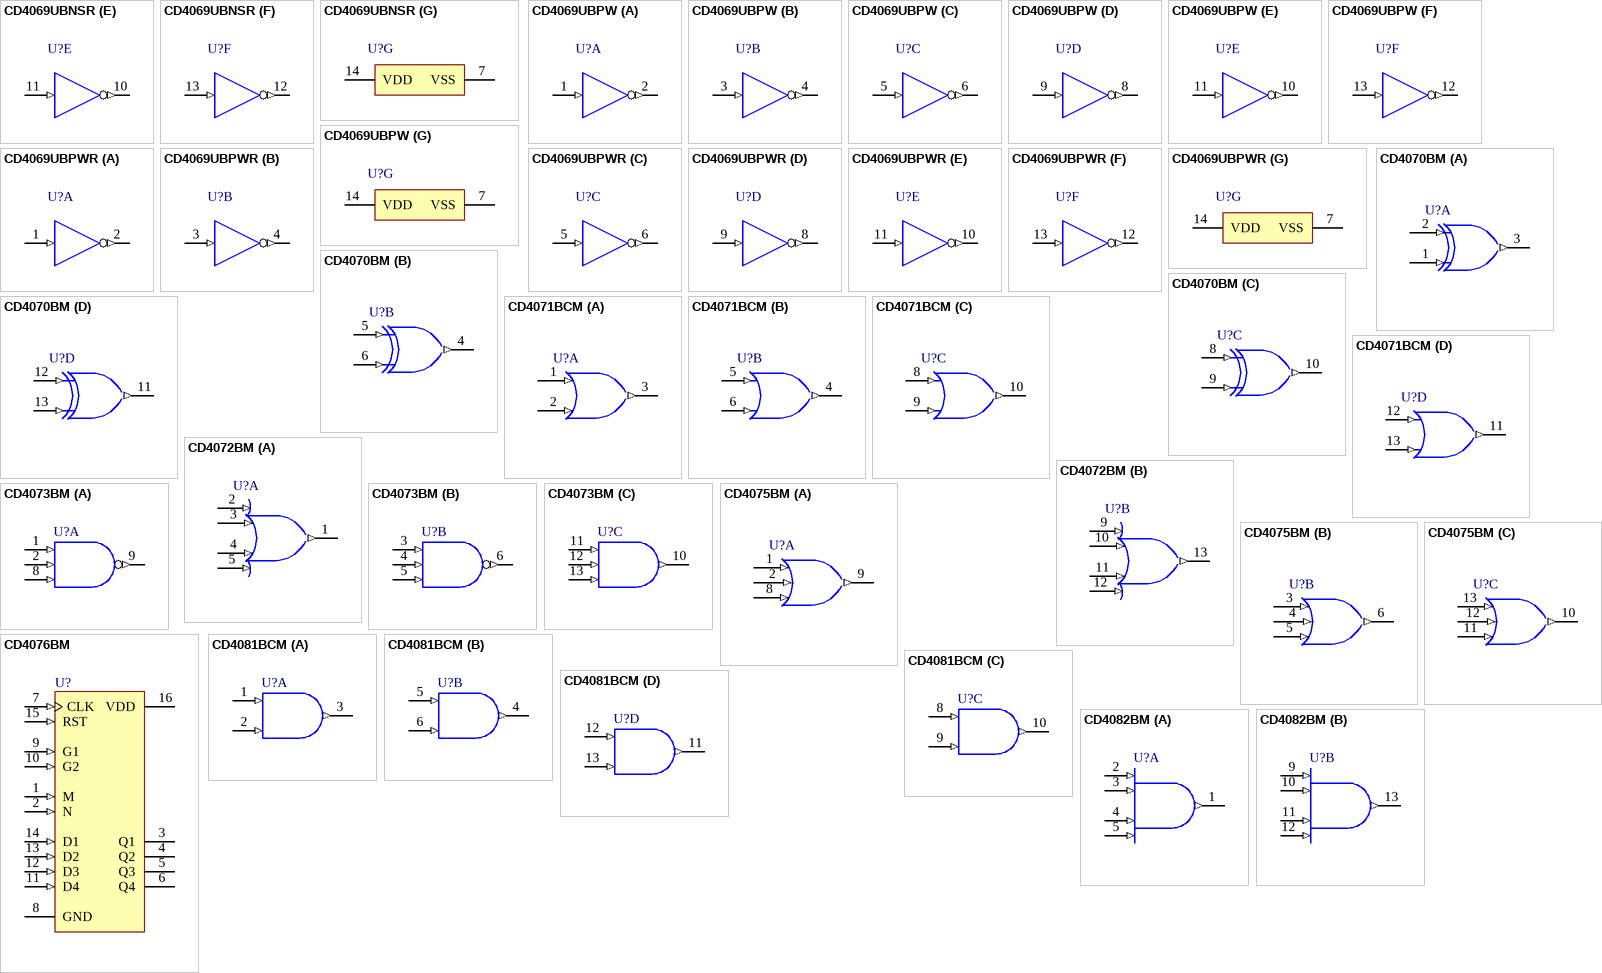
[diagram p8: symbols CD4069UBNSR to CD4082BM]

## CD4069UBNSR
designator U?
CMOS Hex Inverter, NS0014A, LARGE T&R; Generic Part Number: CD4069UB; Manufacturer: Texas Instruments; PartNumber: CD4069UBNSR; VCC(Max)(V): 18; VCC(Min)(V): 3; ICC @ Nom Voltage(Max)(mA): 0.0075; Bits(#): 6; F @ Nom Voltage(Max)(Mhz): 12; Rating: Catalog; Technology Family: CD4000; Voltage(Nom)(V): 5; Schmitt Trigger: No; Output Drive (IOL/IOH)(Max)(mA): -1/1; tpd @ Nom Voltage(Max)(ns): 110; DatasheetVersion: SCHS054C; PackageReference: NS0014A; Output Type: CMOS; Input Type: CMOS; Operating Temperature Range(C): -55 to 125; ComponentLink1Description: Manufacturer URL; ComponentLink1URL: http://www.ti.com/; ComponentLink2Description: Datasheet; ComponentLink2URL: http://www.ti.com/lit/ds/symlink/cd4069ub.pdf; ComponentLink3Description: Package Specification; ComponentLink3URL: http://www.ti.com/lit/ml/msop002a/msop002a.pdf
footprint SOIC-14 (SOIC, 14-Leads, Body 8.75x4mm, Pitch 1.27mm, IPC High Density)
part A pins: 1 A (in), 2 G=~{A} (out)
part B pins: 3 B (in), 4 H=~{B} (out)
part C pins: 5 C (in), 6 I=~{C} (out)
part D pins: 8 J=~{D} (out), 9 D (in)
part E pins: 10 K=~{E} (out), 11 E (in)
part F pins: 12 L=~{F} (out), 13 F (in)
part G pins: 7 VSS (power), 14 VDD (power)

## CD4069UBPW
designator U?
CMOS Hex Inverter, PW0014A, TUBE; Generic Part Number: CD4069UB; Manufacturer: Texas Instruments; PartNumber: CD4069UBPW; VCC(Max)(V): 18; VCC(Min)(V): 3; ICC @ Nom Voltage(Max)(mA): 0.0075; Bits(#): 6; F @ Nom Voltage(Max)(Mhz): 12; Rating: Catalog; Technology Family: CD4000; Voltage(Nom)(V): 5; Schmitt Trigger: No; Output Drive (IOL/IOH)(Max)(mA): -1/1; tpd @ Nom Voltage(Max)(ns): 110; DatasheetVersion: SCHS054C; PackageReference: PW0014A; Output Type: CMOS; Input Type: CMOS; Operating Temperature Range(C): -55 to 125; ComponentLink1Description: Manufacturer URL; ComponentLink1URL: http://www.ti.com/; ComponentLink2Description: Datasheet; ComponentLink2URL: http://www.ti.com/lit/ds/symlink/cd4069ub.pdf; ComponentLink3Description: Package Specification; ComponentLink3URL: http://www.ti.com/lit/ml/mpds360/mpds360.pdf
footprint SOP-14 (SOP, 14-Leads, Body 5.1x4.5mm, Pitch 0.65mm, IPC High Density)
part A pins: 1 A (in), 2 G=~{A} (out)
part B pins: 3 B (in), 4 H=~{B} (out)
part C pins: 5 C (in), 6 I=~{C} (out)
part D pins: 8 J=~{D} (out), 9 D (in)
part E pins: 10 K=~{E} (out), 11 E (in)
part F pins: 12 L=~{F} (out), 13 F (in)
part G pins: 7 VSS (power), 14 VDD (power)

## CD4069UBPWR
designator U?
CMOS Hex Inverter, PW0014A, LARGE T&R; Generic Part Number: CD4069UB; Manufacturer: Texas Instruments; PartNumber: CD4069UBPWR; VCC(Max)(V): 18; VCC(Min)(V): 3; ICC @ Nom Voltage(Max)(mA): 0.0075; Bits(#): 6; F @ Nom Voltage(Max)(Mhz): 12; Rating: Catalog; Technology Family: CD4000; Voltage(Nom)(V): 5; Schmitt Trigger: No; Output Drive (IOL/IOH)(Max)(mA): -1/1; tpd @ Nom Voltage(Max)(ns): 110; DatasheetVersion: SCHS054C; PackageReference: PW0014A; Output Type: CMOS; Input Type: CMOS; Operating Temperature Range(C): -55 to 125; ComponentLink1Description: Manufacturer URL; ComponentLink1URL: http://www.ti.com/; ComponentLink2Description: Datasheet; ComponentLink2URL: http://www.ti.com/lit/ds/symlink/cd4069ub.pdf; ComponentLink3Description: Package Specification; ComponentLink3URL: http://www.ti.com/lit/ml/mpds360/mpds360.pdf
footprint SOIC-14 (SOIC, 14-Leads, Body 8.75x4mm, Pitch 1.27mm, IPC High Density)
part A pins: 1 A (in), 2 G=~{A} (out)
part B pins: 3 B (in), 4 H=~{B} (out)
part C pins: 5 C (in), 6 I=~{C} (out)
part D pins: 8 J=~{D} (out), 9 D (in)
part E pins: 10 K=~{E} (out), 11 E (in)
part F pins: 12 L=~{F} (out), 13 F (in)
part G pins: 7 VSS (power), 14 VDD (power)

## CD4070BM
designator U?
Quad Exclusive OR Gate, 14-Pin SOIC; IC_Technology: C; Published: 17-Jul-2002; LatestRevisionDate: 29-May-2009; LatestRevisionNote: Component Body Added.; DatasheetVersion: Jan-1999; PackageVersion: 2000; PackageReference: N14A; Publisher: Altium Limited; PackageDescription: DIP, 14-Pin, Row Spacing 7.62 mm, Pitch 2.54 mm; ComponentLink1Description: Manufacturer Link; ComponentLink1URL: http://www.fairchildsemi.com/
footprint SOIC-14 (SOIC, 14-Leads, Body 8.75x4mm, Pitch 1.27mm, IPC High Density)
pins on every part: 7 GND (power) hidden to GND, 14 VDD (power) hidden to VDD
part A pins: 1 B (in), 2 A (in), 3 J (out)
part B pins: 4 J (out), 5 A (in), 6 B (in)
part C pins: 8 A (in), 9 B (in), 10 J (out)
part D pins: 11 J (out), 12 A (in), 13 B (in)

## CD4071BCM
designator U?
Quad 2-Input OR Buffered B series Gate, 14-Pin SOIC; IC_Technology: C; Published: 17-Jul-2002; LatestRevisionDate: 13-Apr-2006; LatestRevisionNote: IPC-7351 Footprint Added.; DatasheetVersion: Jan-1999; PackageVersion: 2000; PackageReference: M14A; Publisher: Altium Limited; PackageDescription: 14-Pin Small Outline Integrated Circuit 1.27 mm Pitch; Code_IPC: SOIC127P600-14; ComponentLink1Description: Manufacturer Link; ComponentLink1URL: http://www.fairchildsemi.com/; ComponentLink2Description: Datasheet; ComponentLink2URL: http://www.fairchildsemi.com/ds/CD%2FCD4071BC.pdf
footprint SOIC-14 (SOIC, 14-Leads, Body 8.75x4mm, Pitch 1.27mm, IPC High Density)
pins on every part: 7 GND (power) hidden to GND, 14 VDD (power) hidden to VDD
part A pins: 1 A (in), 2 B (in), 3 J (out)
part B pins: 4 J (out), 5 A (in), 6 B (in)
part C pins: 8 A (in), 9 B (in), 10 J (out)
part D pins: 11 J (out), 12 A (in), 13 B (in)

## CD4072BM
designator U?
Dual 4-Input OR Gate; Note: Pins 6 and 8 are not connected and not drawn.; Published: 8-Jun-2000; LatestRevisionDate: 06-Jun-2005; LatestRevisionNote: Stylized 3D Model Added.; DatasheetVersion: Sep-1988; PackageVersion: Jan-1997; PackageReference: DIP14; Publisher: Altium Limited; PackageDescription: DIP; 14 Leads; Row Spacing 7.62 mm; Pitch 2.54 mm; ComponentLink1Description: Manufacturer Link; ComponentLink1URL: http://www.st.com/; ComponentLink2Description: Datasheet; ComponentLink2URL: http://www.st.com/stonline/products/literature/ds/8099/hcf4002.pdf
footprint SOIC-14 (SOIC, 14-Leads, Body 8.75x4mm, Pitch 1.27mm, IPC High Density)
pins on every part: 7 GND (power) hidden to GND, 14 VDD (power) hidden to VDD
part A pins: 1 O (out), 2 A (in), 3 B (in), 4 C (in), 5 D (in)
part B pins: 9 E (in), 10 F (in), 11 G (in), 12 H (in), 13 O (out)

## CD4073BM
designator U?
Double Buffered Triple 3-Input AND Gate; IC_Technology: C; Published: 17-Jul-2002; LatestRevisionDate: 13-Apr-2006; LatestRevisionNote: IPC-7351 Footprint Added.; DatasheetVersion: Jun-1999; PackageVersion: 2000; PackageReference: M14B; Publisher: Altium Limited; PackageDescription: 14-Pin Small Outline Integrated Circuit 1.27 mm Pitch; Code_JEDEC: MS-013-AF; Code_IPC: SOIC127P1030-14; ComponentLink1Description: Manufacturer Link; ComponentLink1URL: http://www.fairchildsemi.com/; ComponentLink2Description: Datasheet; ComponentLink2URL: http://www.fairchildsemi.com/ds/CD%2FCD4023BC.pdf
footprint SOIC-14 (SOIC, 14-Leads, Body 8.75x4mm, Pitch 1.27mm, IPC High Density)
pins on every part: 7 GND (power) hidden to GND, 14 VDD (power) hidden to VDD
part A pins: 1 A (in), 2 B (in), 8 C (in), 9 J (out)
part B pins: 3 A (in), 4 B (in), 5 C (in), 6 J (out)
part C pins: 10 J (out), 11 A (in), 12 B (in), 13 C (in)

## CD4075BM
designator U?
Double Buffered Triple 3-Input OR Gate; Published: 8-Jun-2000; LatestRevisionDate: 06-Jun-2005; LatestRevisionNote: Stylized 3D Model Added.; DatasheetVersion: Sep-1988; PackageReference: CDIP14; Publisher: Altium Limited; PackageDescription: DIP; 14 Leads; Row Spacing 7.62 mm; Pitch 2.54 mm; ComponentLink1Description: Manufacturer Link; ComponentLink1URL: http://www.st.com/
footprint SOIC-14 (SOIC, 14-Leads, Body 8.75x4mm, Pitch 1.27mm, IPC High Density)
pins on every part: 7 GND (power) hidden to GND, 14 VDD (power) hidden to VDD
part A pins: 1 A (in), 2 B (in), 8 C (in), 9 J (out)
part B pins: 3 D (in), 4 E (in), 5 F (in), 6 K (out)
part C pins: 10 L (out), 11 I (in), 12 H (in), 13 G (in)

## CD4076BM
designator U?
4-Bit D-Type Register; Published: 8-Jun-2000; LatestRevisionDate: 06-Jun-2005; LatestRevisionNote: Stylized 3D Model Added.; DatasheetVersion: Sep-1988; PackageVersion: Apr-1996; PackageReference: DIP16; Publisher: Altium Limited; PackageDescription: DIP; 16 Leads; Row Spacing 7.62 mm; Pitch 2.54 mm; ComponentLink1Description: Manufacturer Link; ComponentLink1URL: http://www.st.com/
footprint SOIC-16 (SOIC, 16-Leads, Body 9.9x3.9mm, Pitch 1.27mm, IPC Medium Density)
pins: 1 M (in), 2 N (in), 3 Q1 (hiz), 4 Q2 (hiz), 5 Q3 (hiz), 6 Q4 (hiz), 7 CLK (in), 8 GND (power), 9 G1 (in), 10 G2 (in), 11 D4 (in), 12 D3 (in), 13 D2 (in), 14 D1 (in), 15 RST (in), 16 VDD (power)

## CD4081BCM
designator U?
Quad 2-Input AND Buffered B series Gate, 14-Pin SOIC; IC_Technology: C; Published: 17-Jul-2002; LatestRevisionDate: 13-Apr-2006; LatestRevisionNote: IPC-7351 Footprint Added.; DatasheetVersion: Jan-1999; PackageVersion: 2000; PackageReference: M14A; Publisher: Altium Limited; PackageDescription: 14-Pin Small Outline Integrated Circuit 1.27 mm Pitch; Code_IPC: SOIC127P600-14; ComponentLink1Description: Manufacturer Link; ComponentLink1URL: http://www.fairchildsemi.com/; ComponentLink2Description: Datasheet; ComponentLink2URL: http://www.fairchildsemi.com/ds/CD%2FCD4071BC.pdf
footprint SOIC-14 (SOIC, 14-Leads, Body 8.75x4mm, Pitch 1.27mm, IPC High Density)
pins on every part: 7 GND (power) hidden to GND, 14 VDD (power) hidden to VDD
part A pins: 1 A (in), 2 B (in), 3 J (out)
part B pins: 4 J (out), 5 A (in), 6 B (in)
part C pins: 8 A (in), 9 B (in), 10 J (out)
part D pins: 11 J (out), 12 A (in), 13 B (in)

## CD4082BM
designator U?
Dual 4-Input AND Gate,  Commerical Grade; IC_Technology: AC; Note: Pins 3 and 11 are NC & not drawn.; Published: 17-Jul-2002; LatestRevisionDate: 13-Apr-2006; LatestRevisionNote: IPC-7351 Footprint Added.; DatasheetVersion: Nov-1999; PackageVersion: 2000; PackageReference: M14D; Publisher: Altium Limited; PackageDescription: 14-Pin Small Outline Package 1.27 mm Pitch; ComponentLink1Description: Manufacturer Link; ComponentLink1URL: http://www.fairchildsemi.com/; ComponentLink2Description: Datasheet; ComponentLink2URL: http://www.fairchildsemi.com/ds/74%2F74AC20.pdf
footprint SOIC-14 (SOIC, 14-Leads, Body 8.75x4mm, Pitch 1.27mm, IPC High Density)
pins on every part: 7 GND (power) hidden to GND, 14 VDD (power) hidden to VCC
part A pins: 1 O (out), 2 A (in), 3 B (in), 4 C (in), 5 D (in)
part B pins: 9 D (in), 10 C (in), 11 B (in), 12 A (in), 13 O (out)

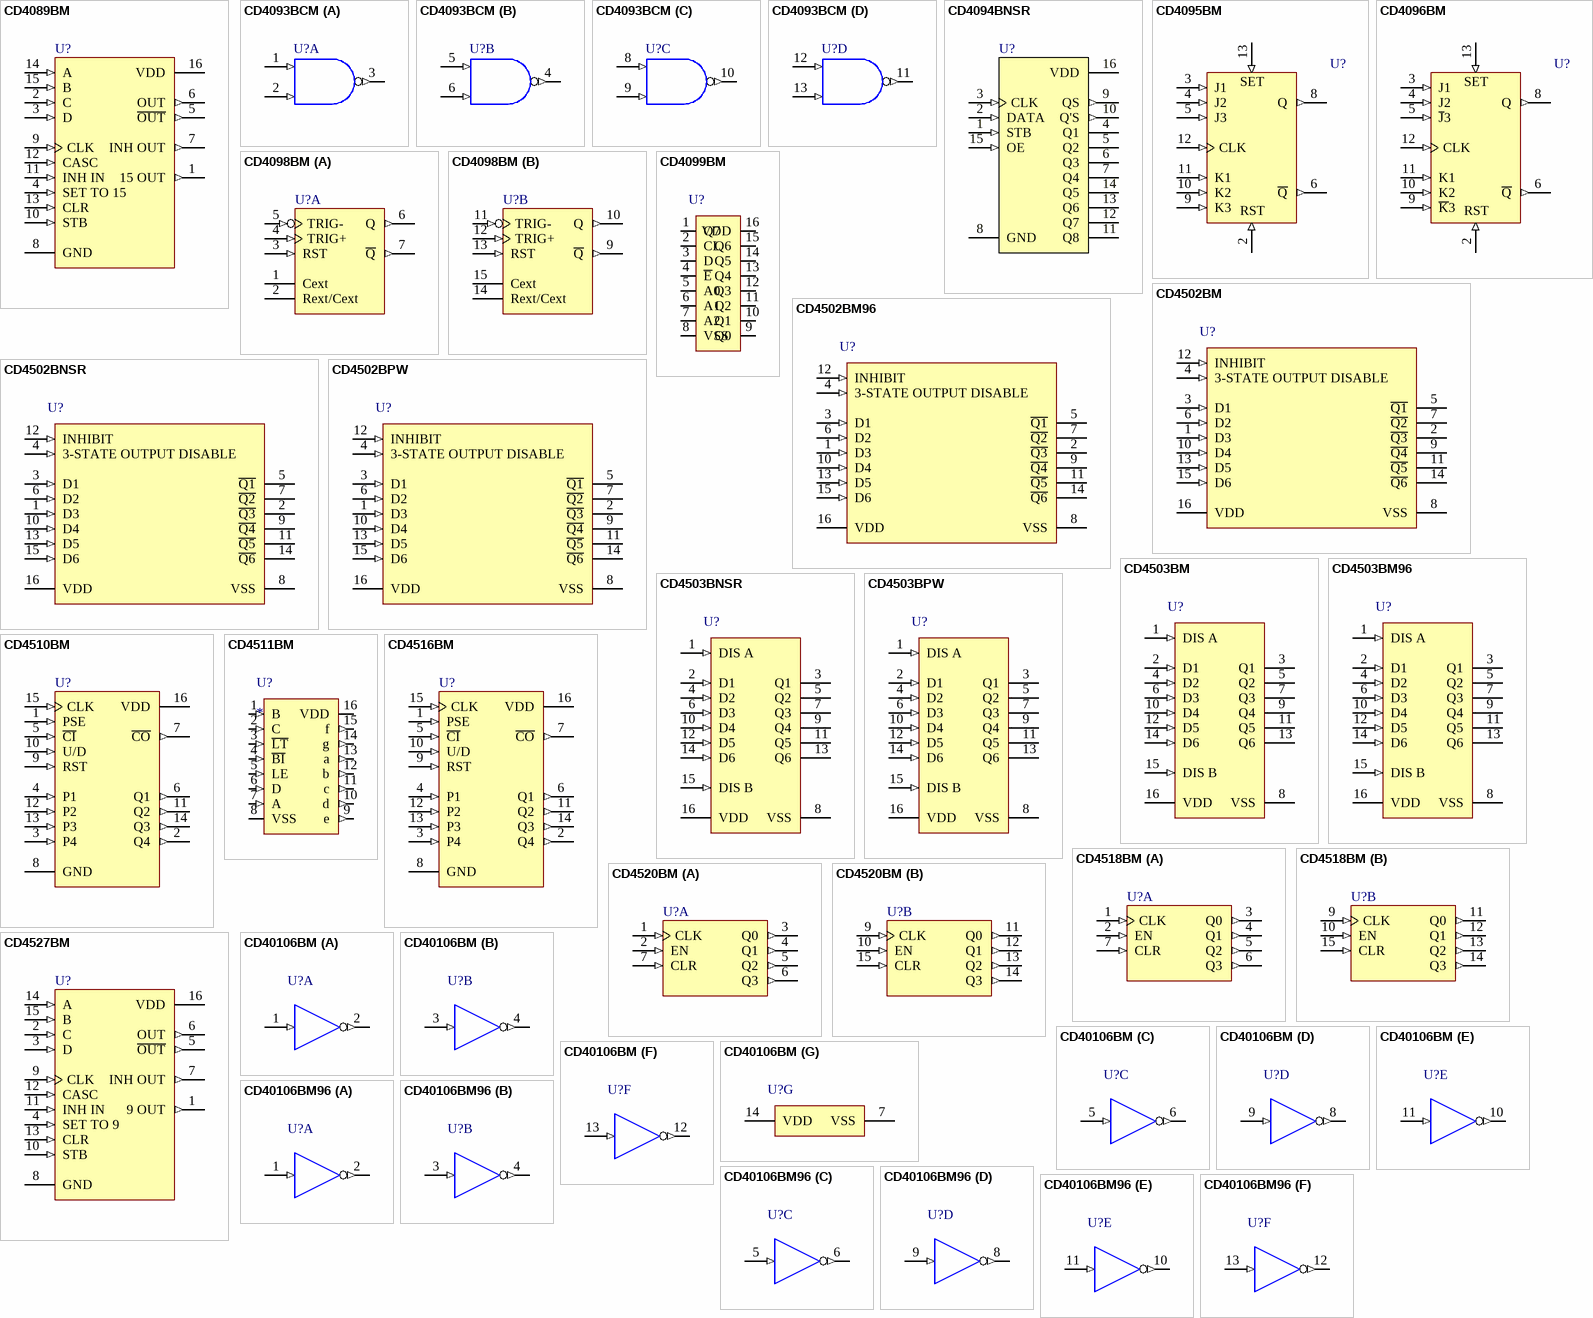
[diagram p9: symbols CD4089BM to CD40106BM96]

## CD4089BM
designator U?
Binary Rate Multiplier; Published: 8-Jun-2000; LatestRevisionDate: 06-Jun-2005; LatestRevisionNote: Stylized 3D Model Added.; DatasheetVersion: Jun-1989; PackageVersion: Apr-1996; PackageReference: DIP16; Publisher: Altium Limited; PackageDescription: DIP; 16 Leads; Row Spacing 7.62 mm; Pitch 2.54 mm; ComponentLink1Description: Manufacturer Link; ComponentLink1URL: http://www.st.com/
footprint SOIC-16 (SOIC, 16-Leads, Body 9.9x3.9mm, Pitch 1.27mm, IPC Medium Density)
pins: 1 15 OUT (out), 2 C (in), 3 D (in), 4 SET TO 15 (in), 5 ~{OUT} (out), 6 OUT (out), 7 INH OUT (out), 8 GND (power), 9 CLK (in), 10 STB (in), 11 INH IN (in), 12 CASC (in), 13 CLR (in), 14 A (in), 15 B (in), 16 VDD (power)

## CD4093BCM
designator U?
Quad 2-Input Schmitt-Trigger NAND Gate, 14-Pin SOIC; IC_Technology: C; Published: 17-Jul-2002; LatestRevisionDate: 13-Apr-2006; LatestRevisionNote: IPC-7351 Footprint Added.; DatasheetVersion: Jan-1999; PackageVersion: 2000; PackageReference: M14A; Publisher: Altium Limited; PackageDescription: 14-Pin Small Outline Integrated Circuit 1.27 mm Pitch; Code_IPC: SOIC127P600-14; ComponentLink1Description: Manufacturer Link; ComponentLink1URL: http://www.fairchildsemi.com/; ComponentLink2Description: Datasheet; ComponentLink2URL: http://www.fairchildsemi.com/ds/CD%2FCD4093BC.pdf
footprint SOIC-14 (SOIC, 14-Leads, Body 8.75x4mm, Pitch 1.27mm, IPC High Density)
pins on every part: 7 GND (power) hidden to GND, 14 VCC (power) hidden to VCC
part A pins: 1 A (in), 2 B (in), 3 J (out)
part B pins: 4 K (out), 5 C (in), 6 D (in)
part C pins: 8 E (in), 9 F (in), 10 L (out)
part D pins: 11 M (out), 12 G (in), 13 H (in)

## CD4094BNSR
designator U?
8-Stage Shift-AND-Store Bus Register; Published: 8-Jun-2000; LatestRevisionDate: 06-Jun-2005; LatestRevisionNote: Stylized 3D Model Added.; DatasheetVersion: Jun-1989; PackageVersion: Apr-1996; PackageReference: DIP16; Publisher: Altium Limited; PackageDescription: DIP; 16 Leads; Row Spacing 7.62 mm; Pitch 2.54 mm; ComponentLink1Description: Manufacturer Link; ComponentLink1URL: http://www.st.com/
footprint SOP-16 (SOP, 16-Leads, Body 5.1x4.5mm, Pitch 0.65mm, IPC High Density)
pins: 1 STB (in), 2 DATA (in), 3 CLK (in), 4 Q1 (hiz), 5 Q2 (hiz), 6 Q3 (hiz), 7 Q4 (hiz), 8 GND (power), 9 QS (out), 10 Q'S (out), 11 Q8 (hiz), 12 Q7 (hiz), 13 Q6 (hiz), 14 Q5 (hiz), 15 OE (in), 16 VDD (power)

## CD4095BM
designator U?
Gate J-K Master-Slave Flip-Flop; Note: Pin 1 is not connected and not drawn.; Published: 8-Jun-2000; LatestRevisionDate: 06-Jun-2005; LatestRevisionNote: Stylized 3D Model Added.; DatasheetVersion: Sep-1988; PackageReference: CDIP14; Publisher: Altium Limited; PackageDescription: DIP; 14 Leads; Row Spacing 7.62 mm; Pitch 2.54 mm; ComponentLink1Description: Manufacturer Link; ComponentLink1URL: http://www.st.com/
footprint SOIC-14 (SOIC, 14-Leads, Body 8.75x4mm, Pitch 1.27mm, IPC High Density)
pins: 2 RST (in), 3 J1 (in), 4 J2 (in), 5 J3 (in), 6 ~{Q} (out), 7 GND (power) hidden to GND, 8 Q (out), 9 K3 (in), 10 K2 (in), 11 K1 (in), 12 CLK (in), 13 S (in), 14 VDD (power) hidden to VDD
text: SET

## CD4096BM
designator U?
Gate J-K Master-Slave Flip-Flop; Note: Pin 1 is not connected and not drawn.; Published: 8-Jun-2000; LatestRevisionDate: 06-Jun-2005; LatestRevisionNote: Stylized 3D Model Added.; DatasheetVersion: Sep-1988; PackageReference: CDIP14; Publisher: Altium Limited; PackageDescription: DIP; 14 Leads; Row Spacing 7.62 mm; Pitch 2.54 mm; ComponentLink1Description: Manufacturer Link; ComponentLink1URL: http://www.st.com/
footprint SOIC-14 (SOIC, 14-Leads, Body 8.75x4mm, Pitch 1.27mm, IPC High Density)
pins: 2 RST (in), 3 J1 (in), 4 J2 (in), 5 ~{J}3 (in), 6 ~{Q} (out), 7 GND (power) hidden to GND, 8 Q (out), 9 ~{K}3 (in), 10 K2 (in), 11 K1 (in), 12 CLK (in), 13 S (in), 14 VDD (power) hidden to VDD
text: SET

## CD4098BM
designator U?
Dual Monostable Multivibrator; Published: 8-Jun-2000; LatestRevisionDate: 06-Jun-2005; LatestRevisionNote: Stylized 3D Model Added.; DatasheetVersion: Jun-1989; PackageVersion: Apr-1996; PackageReference: DIP16; Publisher: Altium Limited; PackageDescription: DIP; 16 Leads; Row Spacing 7.62 mm; Pitch 2.54 mm; ComponentLink1Description: Manufacturer Link; ComponentLink1URL: http://www.st.com/
footprint SOIC-16 (SOIC, 16-Leads, Body 9.9x3.9mm, Pitch 1.27mm, IPC Medium Density)
pins on every part: 8 GND (power) hidden to GND, 16 VCC (power) hidden to VCC
part A pins: 1 Cext, 2 Rext/Cext, 3 RST (in), 4 TRIG+ (in), 5 TRIG- (in), 6 Q (out), 7 ~{Q} (out)
part B pins: 9 ~{Q} (out), 10 Q (out), 11 TRIG- (in), 12 TRIG+ (in), 13 RST (in), 14 Rext/Cext, 15 Cext

## CD4099BM
designator U?
8-Bit Addressable Latch
footprint SOIC-16 (SOIC, 16-Leads, Body 9.9x3.9mm, Pitch 1.27mm, IPC Medium Density)
pins: 1 Q7, 2 CL, 3 D, 4 ~{E}, 5 A0, 6 A1, 7 A2, 8 VSS, 9 Q0, 10 Q1, 11 Q2, 12 Q3, 13 Q4, 14 Q5, 15 Q6, 16 VDD

## CD4502BM
designator U?
CMOS Strobed Hex Inverter/Buffer with 3-State Outputs, D0016A, TUBE; Generic Part Number: CD4502B; Manufacturer: Texas Instruments; PartNumber: CD4502BM; VCC(Max)(V): 18; VCC(Min)(V): 3; ICC @ Nom Voltage(Max)(mA): 0.03; Bits(#): 6; F @ Nom Voltage(Max)(Mhz): 12; Rating: Catalog; Technology Family: CD4000; Voltage(Nom)(V): 5; Schmitt Trigger: No; Output Drive (IOL/IOH)(Max)(mA): -1/6; tpd @ Nom Voltage(Max)(ns): 380; DatasheetVersion: SCHS067B; PackageReference: D0016A; Output Type: CMOS; Input Type: CMOS; Operating Temperature Range(C): -55 to 125; ComponentLink1Description: Manufacturer URL; ComponentLink1URL: http://www.ti.com/; ComponentLink2Description: Datasheet; ComponentLink2URL: http://www.ti.com/lit/ds/symlink/cd4502b.pdf; ComponentLink3Description: Package Specification; ComponentLink3URL: http://www.ti.com/lit/ml/mpds178g/mpds178g.pdf
footprint SOIC-16 (SOIC, 16-Leads, Body 9.9x3.9mm, Pitch 1.27mm, IPC Medium Density)
pins: 1 D3 (in), 2 ~{Q3} (hiz), 3 D1 (in), 4 3-STATE OUTPUT DISABLE (in), 5 ~{Q1} (hiz), 6 D2 (in), 7 ~{Q2} (hiz), 8 VSS (power), 9 ~{Q4} (hiz), 10 D4 (in), 11 ~{Q5} (hiz), 12 INHIBIT (in), 13 D5 (in), 14 ~{Q6} (hiz), 15 D6 (in), 16 VDD (power)

## CD4502BM96
designator U?
CMOS Strobed Hex Inverter/Buffer with 3-State Outputs, D0016A, LARGE T&R; Generic Part Number: CD4502B; Manufacturer: Texas Instruments; PartNumber: CD4502BM96; VCC(Max)(V): 18; VCC(Min)(V): 3; ICC @ Nom Voltage(Max)(mA): 0.03; Bits(#): 6; F @ Nom Voltage(Max)(Mhz): 12; Rating: Catalog; Technology Family: CD4000; Voltage(Nom)(V): 5; Schmitt Trigger: No; Output Drive (IOL/IOH)(Max)(mA): -1/6; tpd @ Nom Voltage(Max)(ns): 380; DatasheetVersion: SCHS067B; PackageReference: D0016A; Output Type: CMOS; Input Type: CMOS; Operating Temperature Range(C): -55 to 125; ComponentLink1Description: Manufacturer URL; ComponentLink1URL: http://www.ti.com/; ComponentLink2Description: Datasheet; ComponentLink2URL: http://www.ti.com/lit/ds/symlink/cd4502b.pdf; ComponentLink3Description: Package Specification; ComponentLink3URL: http://www.ti.com/lit/ml/mpds178g/mpds178g.pdf
footprint SOIC-16 (SOIC, 16-Leads, Body 9.9x3.9mm, Pitch 1.27mm, IPC Medium Density)
pins: 1 D3 (in), 2 ~{Q3} (hiz), 3 D1 (in), 4 3-STATE OUTPUT DISABLE (in), 5 ~{Q1} (hiz), 6 D2 (in), 7 ~{Q2} (hiz), 8 VSS (power), 9 ~{Q4} (hiz), 10 D4 (in), 11 ~{Q5} (hiz), 12 INHIBIT (in), 13 D5 (in), 14 ~{Q6} (hiz), 15 D6 (in), 16 VDD (power)